# Altium schematic symbol library Interfaces$.SchLib: 38 symbols
Pins are listed as number, name and electrical type; pins without a type are passive.

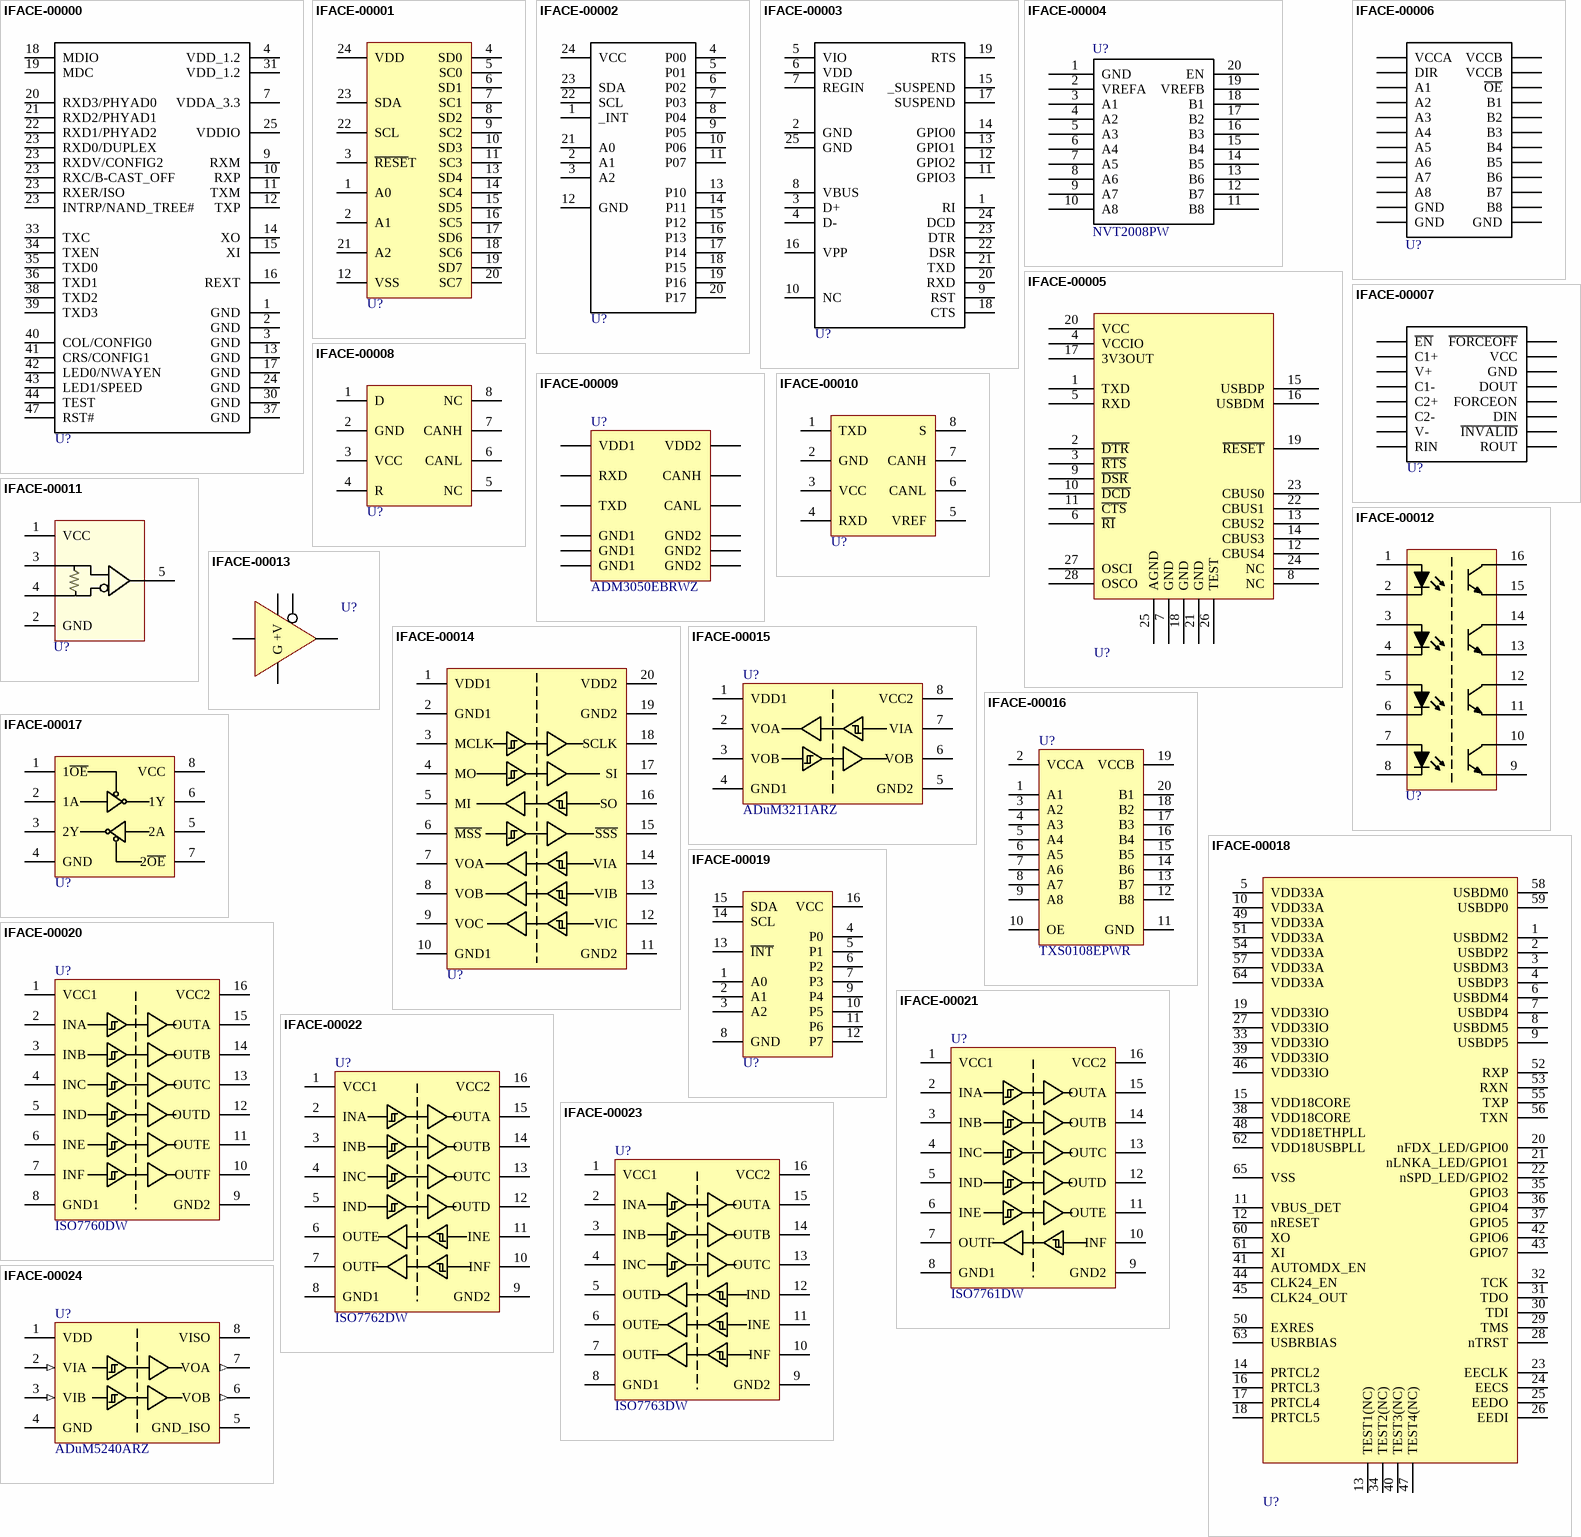
[diagram p0: symbols IFACE-00000 to IFACE-00024]

## IFACE-00000
designator U?, comment KSZ8081MLXCA  (value not drawn)
Ethernet PHY 10/100, LQFP48; Part Number: IFACE-00000; Manufacturer: Microchip; Manufacturer PN: KSZ8081MLXCA
footprint LQFP48_0
pins: 1 GND, 2 GND, 3 GND, 4 VDD_1.2, 7 VDDA_3.3, 9 RXM, 10 RXP, 11 TXM, 12 TXP, 13 GND, 14 XO, 15 XI, 16 REXT, 17 GND, 18 MDIO, 19 MDC, 20 RXD3/PHYAD0, 21 RXD2/PHYAD1, 22 RXD1/PHYAD2, 23 RXD0/DUPLEX, 23 RXDV/CONFIG2, 23 RXC/B-CAST_OFF, 23 RXER/ISO, 23 INTRP/NAND_TREE#, 24 GND, 25 VDDIO, 30 GND, 31 VDD_1.2, 33 TXC, 34 TXEN, 35 TXD0, 36 TXD1, 37 GND, 38 TXD2, 39 TXD3, 40 COL/CONFIG0, 41 CRS/CONFIG1, 42 LED0/NWAYEN, 43 LED1/SPEED, 44 TEST, 47 RST#

## IFACE-00001
designator U?, comment TCA9548A  (value not drawn)
I2C 8-Channel Mux with Reset, TCA9548A; Part Number: IFACE-00001; Manufacturer: TI; Manufacturer PN: TCA9548A; Cost: 1.55
footprint tssop-24_0
pins: 1 A0, 2 A1, 3 ~{RESE}T, 4 SD0, 5 SC0, 6 SD1, 7 SC1, 8 SD2, 9 SC2, 10 SD3, 11 SC3, 12 VSS (power), 13 SD4, 14 SC4, 15 SD5, 16 SC5, 17 SD6, 18 SC6, 19 SD7, 20 SC7, 21 A2, 22 SCL, 23 SDA, 24 VDD (power)

## IFACE-00002
designator U?, comment TCA9535  (value not drawn)
IO Expander, TCA9535; Part Number: IFACE-00002; Manufacturer: TI; Manufacturer PN: TCA9535
footprint tssop-24_0
pins: 1 _INT, 2 A1, 3 A2, 4 P00, 5 P01, 6 P02, 7 P03, 8 P04, 9 P05, 10 P06, 11 P07, 12 GND, 13 P10, 14 P11, 15 P12, 16 P13, 17 P14, 18 P15, 19 P16, 20 P17, 21 A0, 22 SCL, 23 SDA, 24 VCC

## IFACE-00003
designator U?, comment CP2104  (value not drawn)
USB to UART Bridge CP2104; Part Number: IFACE-00003; Manufacturer: SiLabs; Manufacturer PN: CP2104
footprint QFN-24-4x4
pins: 1 RI, 2 GND, 3 D+, 4 D-, 5 VIO, 6 VDD, 7 REGIN, 8 VBUS, 9 RST, 10 NC, 11 GPIO3, 12 GPIO2, 13 GPIO1, 14 GPIO0, 15 _SUSPEND, 16 VPP, 17 SUSPEND, 18 CTS, 19 RTS, 20 RXD, 21 TXD, 22 DSR, 23 DTR, 24 DCD, 25 GND

## IFACE-00004
designator U?, comment NVT2008PW
Bidirectional Voltage Level Translator; Part Number: IFACE-00004; Manufacturer: NXP Semi; Manufacturer PN: NVT2008PW
footprint tssop-20_0
pins: 1 GND, 2 VREFA, 3 A1, 4 A2, 5 A3, 6 A4, 7 A5, 8 A6, 9 A7, 10 A8, 11 B8, 12 B7, 13 B6, 14 B5, 15 B4, 16 B3, 17 B2, 18 B1, 19 VREFB, 20 EN

## IFACE-00005
designator U?, comment FT232RL  (value not drawn)
USB to UART transceiver, FT232RL; Part Number: IFACE-00005; Manufacturer: FTDI; Manufacturer PN: FT232RL; Cost: 4.5
footprint ssop-28_FTDI
pins: 1 TXD, 2 ~{DTR}, 3 ~{RTS}, 4 VCCIO, 5 RXD, 6 ~{RI}, 7 GND, 8 NC, 9 ~{DSR}, 10 ~{DCD}, 11 ~{CTS}, 12 CBUS4, 13 CBUS2, 14 CBUS3, 15 USBDP, 16 USBDM, 17 3V3OUT, 18 GND, 19 ~{RESET}, 20 VCC, 21 GND, 22 CBUS1, 23 CBUS0, 24 NC, 25 AGND, 26 TEST, 27 OSCI, 28 OSCO

## IFACE-00006
designator U?, comment SN74LVC8T245  (value not drawn)
Bidirectional voltage level translator, 8-bit; Part Number: IFACE-00006; Manufacturer: TI; Manufacturer PN: SN74LVC8T245PWR; Cost: 1.05
footprint tssop-24_0
pins: 1 VCCA, 2 DIR, 3 A1, 4 A2, 5 A3, 6 A4, 7 A5, 8 A6, 9 A7, 10 A8, 11 GND, 12 GND, 13 GND, 14 B8, 15 B7, 16 B6, 17 B5, 18 B4, 19 B3, 20 B2, 21 B1, 22 ~{OE}, 23 VCCB, 24 VCCB

## IFACE-00007
designator U?, comment MAX3221E  (value not drawn)
RS-232 Transceiver, Single channel; Part Number: IFACE-00007; Manufacturer: TI; Manufacturer PN: MAX3221ECPWR; Cost: 1.73
footprint tssop-16_0
pins: 1 ~{EN}, 2 C1+, 3 V+, 4 C1-, 5 C2+, 6 C2-, 7 V-, 8 RIN, 9 ROUT, 10 ~{INVALID}, 11 DIN, 12 FORCEON, 13 DOUT, 14 GND, 15 VCC, 16 ~{FORCEOFF}

## IFACE-00008
designator U?, comment SN65HVD232  (value not drawn)
CANbus Transceiver, Single channel, SN65HVD232; Part Number: IFACE-00008; Manufacturer: TI; Manufacturer PN: SN65HVD232DR; Cost: 2.01
footprint SO-8
pins: 1 D, 2 GND, 3 VCC, 4 R, 5 NC, 6 CANL, 7 CANH, 8 NC

## IFACE-00009
designator U?, comment ADM3050EBRWZ
Isolated CANbus Transceiver, Single channel, ADM3050E; Part Number: IFACE-00009; Manufacturer: Analog Devices; Manufacturer PN: ADM3050EBRWZ; Cost: 9.62
footprint SOW-16
pins: 1 VDD1, 2 GND1, 3 RXD, 4 NC1 hidden, 5 NC2 hidden, 6 TXD, 7 GND1, 8 GND1, 9 GND2, 10 GND2, 11 NC3 hidden, 12 CANL, 13 CANH, 14 NC4 hidden, 15 GND2, 16 VDD2

## IFACE-00010
designator U?, comment SN65HVD1050  (value not drawn)
CANbus Transceiver, Single channel, EMC Optimized, SN65HVD1050; Part Number: IFACE-00010; Manufacturer: TI; Manufacturer PN: SN65HVD1050DR; Cost: 1.36
footprint SO-8
pins: 1 TXD, 2 GND, 3 VCC, 4 RXD, 5 VREF, 6 CANL, 7 CANH, 8 S

## IFACE-00011
designator U?, comment SN65LVDT2  (value not drawn)
Differential Line Receiver, Single Channel, Integrated Termination Resistor; Part Number: IFACE-00011; Manufacturer: TI; Manufacturer PN: SN65LVDT2DBV
footprint sot-23-5
pins: 1 VCC, 2 GND, 3 A, 4 B, 5 OUT

## IFACE-00012
designator U?, comment TLP291-4  (value not drawn)
Opto-Coupler Array, Photo-Transistor Output, TLP291-4; Part Number: IFACE-00012; Manufacturer: Toshiba; Manufacturer PN: TLP291-4
footprint SO-16-6.3mm
pins: 1, 2, 3, 4, 5, 6, 7, 8, 9, 10, 11, 12, 13, 14, 15, 16

## IFACE-00013
designator U?, comment SN74AHCT1G125  (value not drawn)
Tri-State Buffer, Single, 4.5-5.5V, SOT-23-5, SN74AHCT1G125; Part Number: IFACE-00013; Manufacturer: TI; Manufacturer PN: SN74AHCT1G125DBVR; Cost: 0.43
footprint sot-23-5
pins: 1 ~{OE}, 2 A, 3 G, 4 Y, 5 +V

## IFACE-00014
designator U?, comment ADuM3153  (value not drawn)
Digital Isolator, SPI-bus optomized, ADuM3153; Part Number: IFACE-00014; Manufacturer: Analog Devices; Manufacturer PN: ADuM3153BRSZ; Cost: 6.75
footprint tssop-20_1
pins: 1 VDD1, 2 GND1, 3 MCLK, 4 MO, 5 MI, 6 ~{MSS}, 7 VOA, 8 VOB, 9 VOC, 10 GND1, 11 GND2, 12 VIC, 13 VIB, 14 VIA, 15 ~{SSS}, 16 SO, 17 SI, 18 SCLK, 19 GND2, 20 VDD2

## IFACE-00015
designator U?, comment ADuM3211ARZ
Digital Isolator, Dual-Channel, ADuM3211; Part Number: IFACE-00015; Manufacturer: Analog Devices; Manufacturer PN: ADuM3211ARZ; Cost: 2.87
footprint SO-8
pins: 1 VDD1, 2 VOA, 3 VOB, 4 GND1, 5 GND2, 6 VOB, 7 VIA, 8 VCC2

## IFACE-00016
designator U?, comment TXS0108EPWR
IC, Bidirectional Level Shifter, TXS0108E, TSSOP-20; Part Number: IFACE-00016; Manufacturer: TI; Manufacturer PN: TXS0108EPWR; Cost: 1.36; Distributor Link: https://www.digikey.com/en/products/detail/texas-instruments/TXS0108EPWR/1775302
footprint tssop-20_0
pins: 1 A1, 2 VCCA, 3 A2, 4 A3, 5 A4, 6 A5, 7 A6, 8 A7, 9 A8, 10 OE, 11 GND, 12 B8, 13 B7, 14 B6, 15 B5, 16 B4, 17 B3, 18 B2, 19 VCCB, 20 B1

## IFACE-00017
designator U?, comment 74LVC2G240  (value not drawn)
Tri-State Buffer, Dual, 1.65-5.5V, TSSOP-8, SN74LVC2G240; Part Number: IFACE-00017; Manufacturer: NXP; Manufacturer PN: 74LVC2G240DP,125; Cost: 0.54
footprint tssop-8_0
pins: 1 1~{OE}, 2 1A, 3 2Y, 4 GND, 5 2A, 6 1Y, 7 2~{OE}, 8 VCC

## IFACE-00018
designator U?, comment LAN9514  (value not drawn)
IC, USB 2.0 Hub and Ethernet 10/100 Controller, LAN9514; Part Number: IFACE-00018; Manufacturer: Microchip; Manufacturer PN: LAN9514-JZX; Cost: 5.54
footprint QFN-64-EP
pins: 1 USBDM2, 2 USBDP2, 3 USBDM3, 4 USBDP3, 5 VDD33A, 6 USBDM4, 7 USBDP4, 8 USBDM5, 9 USBDP5, 10 VDD33A, 11 VBUS_DET, 12 nRESET, 13 TEST1(NC), 14 PRTCL2, 15 VDD18CORE, 16 PRTCL3, 17 PRTCL4, 18 PRTCL5, 19 VDD33IO, 20 nFDX_LED/GPIO0, 21 nLNKA_LED/GPIO1, 22 nSPD_LED/GPIO2, 23 EECLK, 24 EECS, 25 EEDO, 26 EEDI, 27 VDD33IO, 28 nTRST, 29 TMS, 30 TDI, 31 TDO, 32 TCK, 33 VDD33IO, 34 TEST2(NC), 35 GPIO3, 36 GPIO4, 37 GPIO5, 38 VDD18CORE, 39 VDD33IO, 40 TEST3(NC), 41 AUTOMDX_EN, 42 GPIO6, 43 GPIO7, 44 CLK24_EN, 45 CLK24_OUT, 46 VDD33IO, 47 TEST4(NC), 48 VDD18ETHPLL, 49 VDD33A, 50 EXRES, 51 VDD33A, 52 RXP, 53 RXN, 54 VDD33A, 55 TXP, 56 TXN, 57 VDD33A, 58 USBDM0, 59 USBDP0, 60 XO, 61 XI, 62 VDD18USBPLL, 63 USBRBIAS, 64 VDD33A, 65 VSS

## IFACE-00019
designator U?, comment PCF8574A  (value not drawn)
IC, Remote 8-bit IO Expander, I2C 100kHz, PCF8574A; Part Number: IFACE-00019; Manufacturer: TI; Manufacturer PN: PCF8574ADWR; Cost: 1.32
footprint SOW-16
pins: 1 A0, 2 A1, 3 A2, 4 P0, 5 P1, 6 P2, 7 P3, 8 GND, 9 P4, 10 P5, 11 P6, 12 P7, 13 ~{INT}, 14 SCL, 15 SDA, 16 VCC

## IFACE-00020
designator U?, comment ISO7760DW
IC, Digital Isolator, 6-Channel, 5kVrms, SOW-16, ISO7760; Part Number: IFACE-00020; Manufacturer: TI; Manufacturer PN: ISO7760DW
footprint SOW-16
pins: 1 VCC1, 2 INA, 3 INB, 4 INC, 5 IND, 6 INE, 7 INF, 8 GND1, 9 GND2, 10 OUTF, 11 OUTE, 12 OUTD, 13 OUTC, 14 OUTB, 15 OUTA, 16 VCC2

## IFACE-00021
designator U?, comment ISO7761DW
IC, Digital Isolator, 6-Channel, 5kVrms, SOW-16, ISO7761; Part Number: IFACE-00021; Manufacturer: TI; Manufacturer PN: ISO7761DW
footprint SOW-16
pins: 1 VCC1, 2 INA, 3 INB, 4 INC, 5 IND, 6 INE, 7 OUTF, 8 GND1, 9 GND2, 10 INF, 11 OUTE, 12 OUTD, 13 OUTC, 14 OUTB, 15 OUTA, 16 VCC2

## IFACE-00022
designator U?, comment ISO7762DW
IC, Digital Isolator, 6-Channel, 5kVrms, SOW-16, ISO7762; Part Number: IFACE-00022; Manufacturer: TI; Manufacturer PN: ISO7762DW
footprint SOW-16
pins: 1 VCC1, 2 INA, 3 INB, 4 INC, 5 IND, 6 OUTE, 7 OUTF, 8 GND1, 9 GND2, 10 INF, 11 INE, 12 OUTD, 13 OUTC, 14 OUTB, 15 OUTA, 16 VCC2

## IFACE-00023
designator U?, comment ISO7763DW
IC, Digital Isolator, 6-Channel, 5kVrms, SOW-16, ISO7763; Part Number: IFACE-00023; Manufacturer: TI; Manufacturer PN: ISO7763DW
footprint SOW-16
pins: 1 VCC1, 2 INA, 3 INB, 4 INC, 5 OUTD, 6 OUTE, 7 OUTF, 8 GND1, 9 GND2, 10 INF, 11 INE, 12 IND, 13 OUTC, 14 OUTB, 15 OUTA, 16 VCC2

## IFACE-00024
designator U?, comment ADuM5240ARZ
IC, Digital Isolator, 2-Ch, isoPower, 2500Vrms, SOIC-8, ADuM5240; Part Number: IFACE-00024; Manufacturer: Analog Devices; Manufacturer PN: ADuM5240ARZ; Cost: 7.33
footprint SO-8
pins: 1 VDD (power), 2 VIA (in), 3 VIB (in), 4 GND (power), 5 GND_ISO (power), 6 VOB (out), 7 VOA (out), 8 VISO (power)

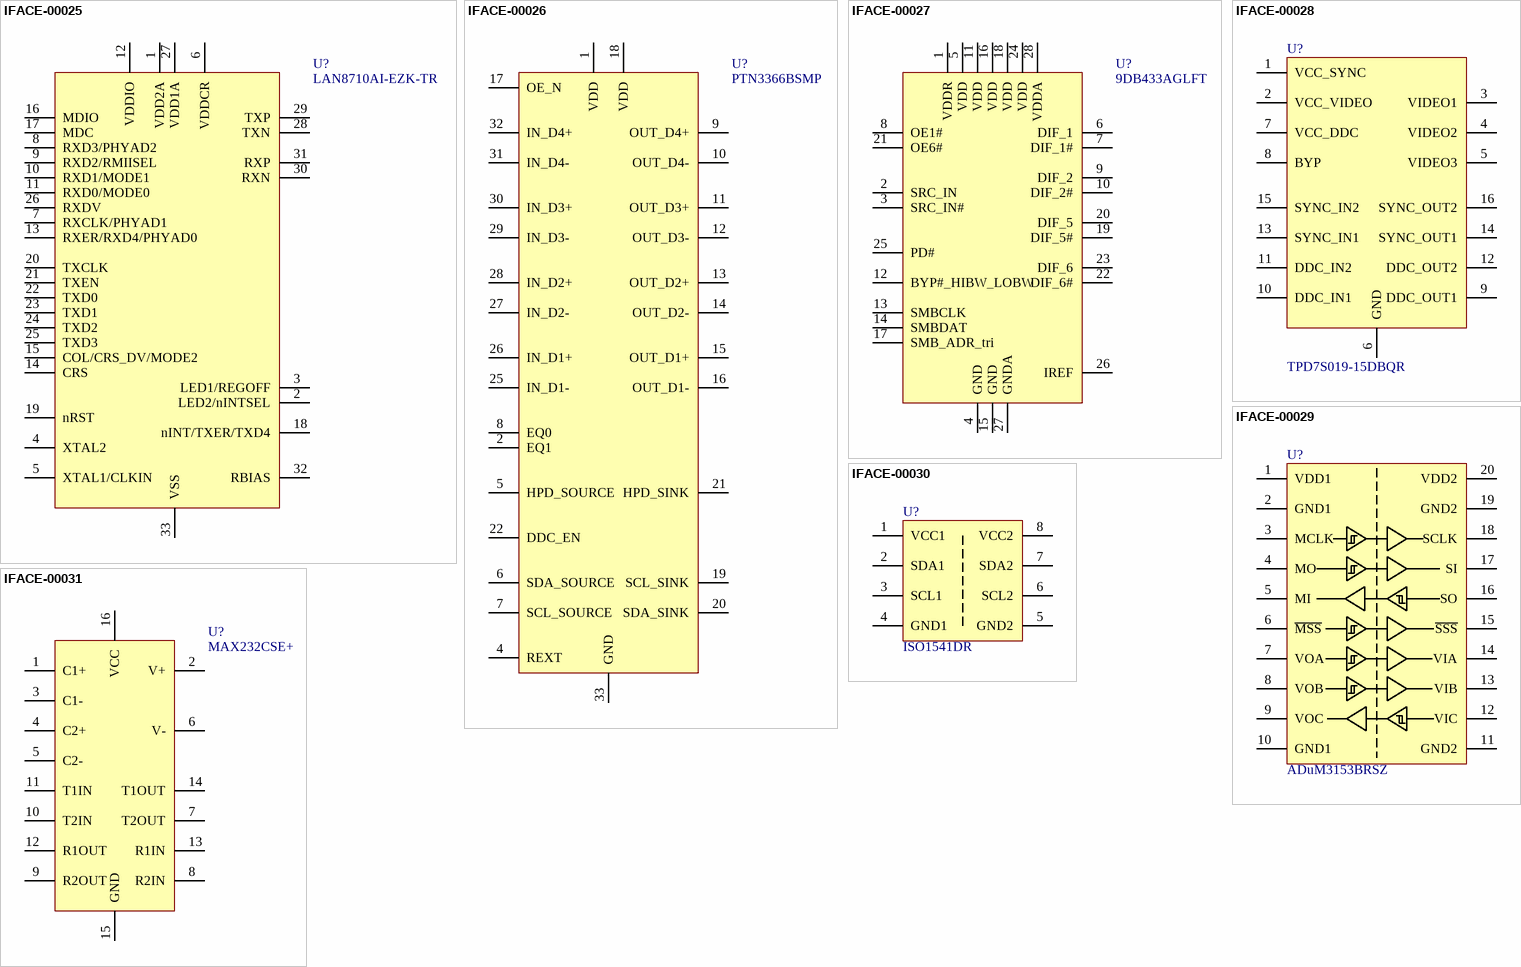
[diagram p1: symbols IFACE-00025 to IFACE-00031]

## IFACE-00025
designator U?, comment LAN8710AI-EZK-TR
IC, 10/100 Ethernet Transceiver; Part Number: IFACE-00025; Manufacturer: Microchip; Manufacturer PN: LAN8710AI-EZK-TR; Cost: 1.56
footprint QFN-32-EP
pins: 1 VDD2A, 2 LED2/nINTSEL, 3 LED1/REGOFF, 4 XTAL2, 5 XTAL1/CLKIN, 6 VDDCR, 7 RXCLK/PHYAD1, 8 RXD3/PHYAD2, 9 RXD2/RMIISEL, 10 RXD1/MODE1, 11 RXD0/MODE0, 12 VDDIO, 13 RXER/RXD4/PHYAD0, 14 CRS, 15 COL/CRS_DV/MODE2, 16 MDIO, 17 MDC, 18 nINT/TXER/TXD4, 19 nRST, 20 TXCLK, 21 TXEN, 22 TXD0, 23 TXD1, 24 TXD2, 25 TXD3, 26 RXDV, 27 VDD1A, 28 TXN, 29 TXP, 30 RXN, 31 RXP, 32 RBIAS, 33 VSS

## IFACE-00026
designator U?, comment PTN3366BSMP
IC, Video Level Shifter, HDMI v1.4b, 32-HVQFN, PTN3366; Part Number: IFACE-00026; Manufacturer: NXP; Manufacturer PN: PTN3366BSMP; Cost: 0.94
footprint HVQFN-32
pins: 1 VDD, 2 EQ1, 3 NC hidden, 4 REXT, 5 HPD_SOURCE, 6 SDA_SOURCE, 7 SCL_SOURCE, 8 EQ0, 9 OUT_D4+, 10 OUT_D4-, 11 OUT_D3+, 12 OUT_D3-, 13 OUT_D2+, 14 OUT_D2-, 15 OUT_D1+, 16 OUT_D1-, 17 OE_N, 18 VDD, 19 SCL_SINK, 20 SDA_SINK, 21 HPD_SINK, 22 DDC_EN, 23 NC hidden, 24 NC hidden, 25 IN_D1-, 26 IN_D1+, 27 IN_D2-, 28 IN_D2+, 29 IN_D3-, 30 IN_D3+, 31 IN_D4-, 32 IN_D4+, 33 GND

## IFACE-00027
designator U?, comment 9DB433AGLFT
IC, Clock Fanout Buffer, PCIe, 1:4, 28-TSSOP; Part Number: IFACE-00027; Manufacturer: Renesas; Manufacturer PN: 9DB433AGLFT; Cost: 3.71
footprint tssop-28_1
pins: 1 VDDR, 2 SRC_IN, 3 SRC_IN#, 4 GND, 5 VDD, 6 DIF_1, 7 DIF_1#, 8 OE1#, 9 DIF_2, 10 DIF_2#, 11 VDD, 12 BYP#_HIBW_LOBW, 13 SMBCLK, 14 SMBDAT, 15 GND, 16 VDD, 17 SMB_ADR_tri, 18 VDD, 19 DIF_5#, 20 DIF_5, 21 OE6#, 22 DIF_6#, 23 DIF_6, 24 VDD, 25 PD#, 26 IREF, 27 GNDA, 28 VDDA

## IFACE-00028
designator U?, comment TPD7S019-15DBQR
IC, VGA ESD Protection Chip, 16-SSOP; Part Number: IFACE-00028; Manufacturer: TI; Manufacturer PN: TPD7S019-15DBQR; Cost: 0.51
footprint ssop-16_0
pins: 1 VCC_SYNC, 2 VCC_VIDEO, 3 VIDEO1, 4 VIDEO2, 5 VIDEO3, 6 GND, 7 VCC_DDC, 8 BYP, 9 DDC_OUT1, 10 DDC_IN1, 11 DDC_IN2, 12 DDC_OUT2, 13 SYNC_IN1, 14 SYNC_OUT1, 15 SYNC_IN2, 16 SYNC_OUT2

## IFACE-00029
designator U?, comment ADuM3153BRSZ
Digital Isolator, SPI-bus optomized, ADuM3151; Part Number: IFACE-00029; Manufacturer: Analog Devices; Manufacturer PN: ADuM3153BRSZ; Cost: 6.69
footprint tssop-20_1
pins: 1 VDD1, 2 GND1, 3 MCLK, 4 MO, 5 MI, 6 ~{MSS}, 7 VOA, 8 VOB, 9 VOC, 10 GND1, 11 GND2, 12 VIC, 13 VIB, 14 VIA, 15 ~{SSS}, 16 SO, 17 SI, 18 SCLK, 19 GND2, 20 VDD2

## IFACE-00030
designator U?, comment ISO1541DR
IC, Bidirectional I2C Isolator, 2500 Vrms, Low Power, SOIC-8; Part Number: IFACE-00030; Manufacturer: TI; Manufacturer PN: ISO1541DR; Cost: 4.05
footprint SO-8
pins: 1 VCC1, 2 SDA1, 3 SCL1, 4 GND1, 5 GND2, 6 SCL2, 7 SDA2, 8 VCC2

## IFACE-00031
designator U?, comment MAX232CSE+
IC, RS-232 Transceiver, Dual Channel, SOIC-16; Part Number: IFACE-00031; Manufacturer: Maxim Integrated; Manufacturer PN: MAX232CSE+; Cost: 2.92
footprint SO-16
pins: 1 C1+, 2 V+, 3 C1-, 4 C2+, 5 C2-, 6 V-, 7 T2OUT, 8 R2IN, 9 R2OUT, 10 T2IN, 11 T1IN, 12 R1OUT, 13 R1IN, 14 T1OUT, 15 GND, 16 VCC

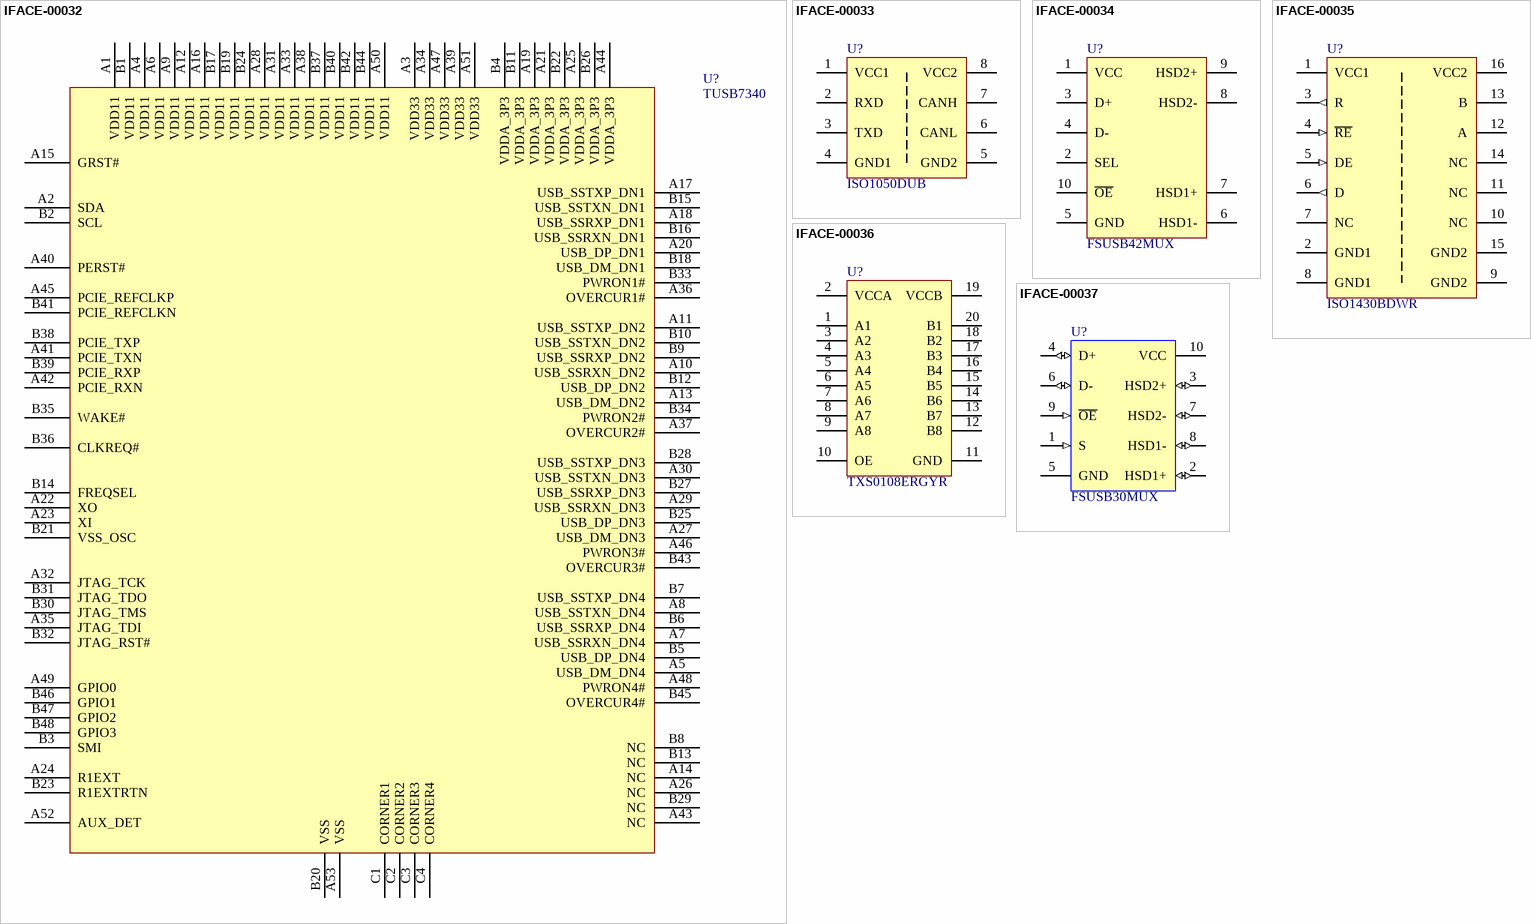
[diagram p2: symbols IFACE-00032 to IFACE-00037]

## IFACE-00032
designator U?, comment TUSB7340
IC, PCIe to USB 3.0 Bridge, PWQFN-100; Part Number: IFACE-00032; Manufacturer: TI; Manufacturer PN: TUSB7340; Cost: 14.03
footprint PWQFN-N100-DUAL-ROW
pins: A1 VDD11, A2 SDA, A3 VDD33, A4 VDD11, A5 USB_DM_DN4, A6 VDD11, A7 USB_SSRXN_DN4, A8 USB_SSTXN_DN4, A9 VDD11, A10 USB_SSRXN_DN2, A11 USB_SSTXP_DN2, A12 VDD11, A13 USB_DM_DN2, A14 NC, A15 GRST#, A16 VDD11, A17 USB_SSTXP_DN1, A18 USB_SSRXP_DN1, A19 VDDA_3P3, A20 USB_DP_DN1, A21 VDDA_3P3, A22 XO, A23 XI, A24 R1EXT, A25 VDDA_3P3, A26 NC, A27 USB_DM_DN3, A28 VDD11, A29 USB_SSRXN_DN3, A30 USB_SSTXN_DN3, A31 VDD11, A32 JTAG_TCK, A33 VDD11, A34 VDD33, A35 JTAG_TDI, A36 OVERCUR1#, A37 OVERCUR2#, A38 VDD11, A39 VDD33, A40 PERST#, A41 PCIE_TXN, A42 PCIE_RXN, A43 NC, A44 VDDA_3P3, A45 PCIE_REFCLKP, A46 PWRON3#, A47 VDD33, A48 PWRON4#, A49 GPIO0, A50 VDD11, A51 VDD33, A52 AUX_DET, A53 VSS, B1 VDD11, B2 SCL, B3 SMI, B4 VDDA_3P3, B5 USB_DP_DN4, B6 USB_SSRXP_DN4, B7 USB_SSTXP_DN4, B8 NC, B9 USB_SSRXP_DN2, B10 USB_SSTXN_DN2, B11 VDDA_3P3, B12 USB_DP_DN2, B13 NC, B14 FREQSEL, B15 USB_SSTXN_DN1, B16 USB_SSRXN_DN1, B17 VDD11, B18 USB_DM_DN1, B19 VDD11, B20 VSS, B21 VSS_OSC, B22 VDDA_3P3, B23 R1EXTRTN, B24 VDD11, B25 USB_DP_DN3, B26 VDDA_3P3, B27 USB_SSRXP_DN3, B28 USB_SSTXP_DN3, B29 NC, B30 JTAG_TMS, B31 JTAG_TDO, B32 JTAG_RST#, B33 PWRON1#, B34 PWRON2#, B35 WAKE#, B36 CLKREQ#, B37 VDD11, B38 PCIE_TXP, B39 PCIE_RXP, B40 VDD11, B41 PCIE_REFCLKN, B42 VDD11, B43 OVERCUR3#, B44 VDD11, B45 OVERCUR4#, B46 GPIO1, B47 GPIO2, B48 GPIO3, C1 CORNER1, C2 CORNER2, C3 CORNER3, C4 CORNER4

## IFACE-00033
designator U?, comment ISO1050DUB
IC, CANbus Transceiver, Isolated, 2500 VRMS, 8-SOP; Part Number: IFACE-00033; Manufacturer: Ti; Manufacturer PN: ISO1050DUB; Cost: 5.19
footprint SOP-8
pins: 1 VCC1, 2 RXD, 3 TXD, 4 GND1, 5 GND2, 6 CANL, 7 CANH, 8 VCC2

## IFACE-00034
designator U?, comment FSUSB42MUX
IC, High-Speed USB 2.0 Switch, DPDT, 10-MSOP; Part Number: IFACE-00034; Manufacturer: ON Semi; Manufacturer PN: FSUSB42MUX; Cost: 0.64
footprint MSOP-10
pins: 1 VCC, 2 SEL, 3 D+, 4 D-, 5 GND, 6 HSD1-, 7 HSD1+, 8 HSD2-, 9 HSD2+, 10 ~{OE}

## IFACE-00035
designator U?, comment ISO1430BDWR
IC, Isolated RS485 Transceiver, Half-Duplex, 12Mbps; Part Number: IFACE-00035; Manufacturer: TI; Manufacturer PN: ISO1430BDWR; Cost: 4.97
footprint SOW-16
pins: 1 VCC1 (power), 2 GND1 (power), 3 R (out), 4 ~{RE} (in), 5 DE (in), 6 D (out), 7 NC, 8 GND1 (power), 9 GND2 (power), 10 NC, 11 NC, 12 A, 13 B, 14 NC, 15 GND2 (power), 16 VCC2 (power)

## IFACE-00036
designator U?, comment TXS0108ERGYR
IC, Bidirectional Level Shifter, TXS0108E, VQFN-20; Part Number: IFACE-00036; Manufacturer: TI; Manufacturer PN: TXS0108ERGYR; Cost: 1.5; Distributor Link: https://www.digikey.com/en/products/detail/texas-instruments/TXS0108ERGYR/1910182
footprint VQFN-20-3.5x4.5-EP
pins: 1 A1, 2 VCCA, 3 A2, 4 A3, 5 A4, 6 A5, 7 A6, 8 A7, 9 A8, 10 OE, 11 GND, 12 B8, 13 B7, 14 B6, 15 B5, 16 B4, 17 B3, 18 B2, 19 VCCB, 20 B1

## IFACE-00037
designator U?, comment FSUSB30MUX
IC, High-Speed USB 2.0 Switch, DPDT, FSUSB30, 10-MSOP; Part Number: IFACE-00037; Manufacturer: onsemi; Manufacturer PN: FSUSB30MUX; Cost: 0.6; Distributor Link: https://www.digikey.com/en/products/detail/onsemi/FSUSB30MUX/1245063
footprint MSOP-10
pins: 1 S (in), 2 HSD1+ (io), 3 HSD2+ (io), 4 D+ (io), 5 GND (power), 6 D- (io), 7 HSD2- (io), 8 HSD1- (io), 9 ~{OE} (in), 10 VCC (power)